# Altium schematic symbol library 2021-04-19_16-51-58.SchLib: 2 symbols
Pins are listed as number, name and electrical type; pins without a type are passive.

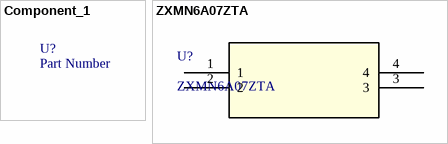
[diagram p0: symbols Component_1 to ZXMN6A07ZTA]

## Component_1
designator U?, comment Part Number
XXX - Description - Package; GRAMS Lib Spec: 2.7

## ZXMN6A07ZTA
designator U?
No Description Available; Built_By: EMA_Justin; Vendor: Diodes Inc; SourceLibrary: Diodes_Inc_2018-12-15; Copyright: Copyright (C) 2016 Accelerated Designs. All rights reserved; Manufacturer_Part_Number: ZXMN6A07ZTA; RefDes: RefDes; Type: DEV
footprint SOT4_DXT2222A_DIO
pins: 1, 2, 3, 4